# EAGLE library part MCP73833T-AMI/MF (library power)
Linear Charge Management Controller Li-Ion/Li-Pol 1mA 4.2V/4.35V/4.4V/4.5V 10-Pin DFN EP T/R Check prices <https://pricing.snapeda.com/parts/MCP73833T-AMI/MF/Microchip%20Technology/view-part?ref=eda>
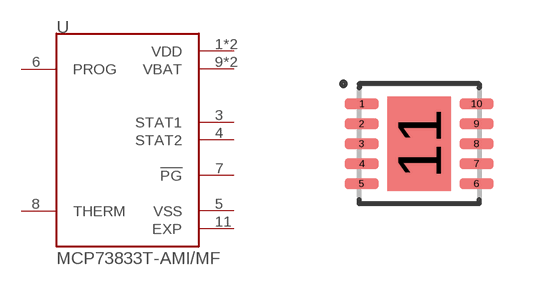
[diagram p12: symbol with the pads of DFN-10(3X3X0.9); footprint DFN-10(3X3X0.9)]

Designator prefix U

## MCP73833T-AMI/MF  [DFN-10(3X3X0.9)]
1  VDD
2  VDD
3  STAT1
4  STAT2
5  VSS
6  PROG
7  !PG
8  THERM
9  VBAT
10  VBAT
11  EXP

## Footprint DFN-10(3X3X0.9) (pad centres in mm)
smd 0.84 x 0.26: 1 -1.435,1; 2 -1.435,0.5; 3 -1.435,0; 4 -1.435,-0.5; 5 -1.435,-1; 6 1.435,-1; 7 1.435,-0.5; 8 1.435,0; 9 1.435,0.5; 10 1.435,1
smd 1.58 x 2.35: 11 0,0